# Altium schematic symbol library P4SMAJ15CA.SchLib: 1 symbol
Pins are listed as number, name and electrical type; pins without a type are passive.

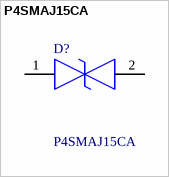
[diagram p0: symbol P4SMAJ15CA]

## P4SMAJ15CA
designator D?
ESD Protection Diodes / TVS Diodes TVS, SMA,  150C,  400W, Bidir; Manufacturer_Name: Diotec; Geometry.Height: 2.4mm; Mouser Part Number: *; Mouser Price/Stock: *; Manufacturer_Part_Number: P4SMAJ15CA; Datasheet Link: https://diotec.com/request/datasheet/p4smaj65.pdf
footprint DIONM5027X240N
pins: 1, 2